# EAGLE library part TPS62737RGY (library davide)
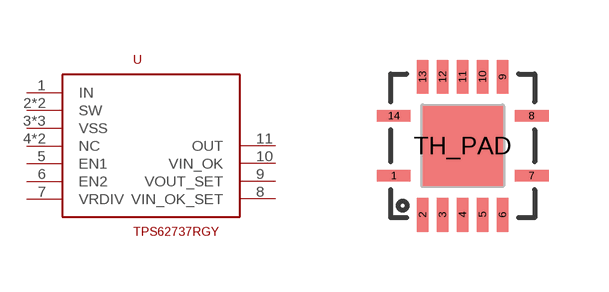
[diagram p0: symbol with the pads of QFN14; footprint QFN14]

Designator prefix U

## TPS62737RGY (VALUE: TPS62737RGY)  [QFN14]
1  IN  pwr
2  SW  out
3  VSS  pwr
4  NC  nc
5  EN1  in
6  EN2  in
7  VRDIV  out
8  VIN_OK_SET  in
9  VOUT_SET  in
10  VIN_OK  out
11  OUT  out
12  VSS  pwr
13  SW  out
14  NC  nc
TH_PAD  VSS  pwr

## Footprint QFN14 (pad centres in mm)
QFN-14 TI's "RGY" package. Think I copied it from the datasheet <http://www.ti.com/lit/ds/symlink/sn74lv08a.pdf#page=16>.
smd 0.85 x 0.28: 1 -1.725,-0.75; 7 1.725,-0.75; 8 1.725,0.75; 14 -1.725,0.75
smd 0.28 x 0.85: 2 -1,-1.725; 3 -0.5,-1.725; 4 0,-1.725; 5 0.5,-1.725; 6 1,-1.725; 9 1,1.725; 10 0.5,1.725; 11 0,1.725; 12 -0.5,1.725; 13 -1,1.725
smd 2 x 2: TH_PAD 0,0